# Altium schematic symbol library XT90PW-M.SchLib: 1 symbol
Pins are listed as number, name and electrical type; pins without a type are passive.

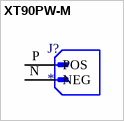
[diagram p0: symbol XT90PW-M]

## XT90PW-M
designator J?
Socket; DC supply; XT90; male; PIN: 2; on PCBs; THT; Colour: yellow; MP: XT90PW-M; MF: AMASS; Package: Package; Availability: Not in stock; Value: *; Price: None; Check_prices: https://www.snapeda.com/parts/XT90PW-M/AMASS/view-part/?ref=eda; SnapEDA_Link: https://www.snapeda.com/parts/XT90PW-M/AMASS/view-part/?ref=snap
footprint AMASS_XT90PW-M
pins: N NEG, P POS